# Altium schematic symbol library IG100.SchLib: 1 symbol
Pins are listed as number, name and electrical type; pins without a type are passive.

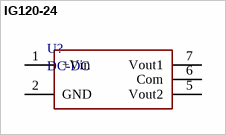
[diagram p0: symbol IG120-24]

## IG120-24
designator U?, comment DC-DC
High Isolation / IGBT Driver / DC/DC Con vert ers
footprint IG120-24
pins: 1 +Vin, 2 GND, 5 Vout2, 6 Com, 7 Vout1